# Altium footprint library LDO.PcbLib: 4 footprints
Each footprint in its own frame and in the unit in brackets; x right, y up, seen from the top. Pads: shape width x height; smd on the part's side, far side on the other; paste and mask are expansions set on the pad; w line width, h text height; cw(c..) or ccw(c..) is an arc to the next point about the centre after c.
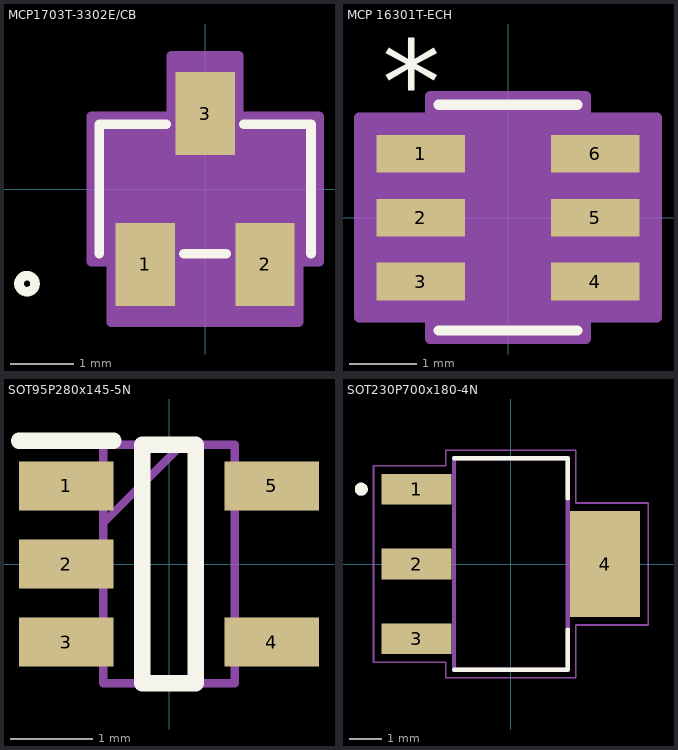
[diagram p0: the footprints below, top view; thin cyan lines are the x and y axes]

## MCP1703T-3302E/CB [mil]
pads (3):
  rect 37x52 smd paste+0 mask+0: 1(-37.4,-47.06) 2(37.4,-47.06) 3(0,47.06)
Top Overlay:
  circle w6: c-111.02,-59.06 r5
  lines w6: -66.02,-40.43 -66.02,40.43 -24.1,40.43 ; -13.3,-40.43 13.3,-40.43 ; 24.1,40.43 66.02,40.43 66.02,-40.43
Mechanical 13:
  circle w1: c-51.02,-25.43 r5
  lines w1: -61.02,-35.43 61.02,-35.43 61.02,35.43 -61.02,35.43 -61.02,-35.43 ; -47.4,-59.06 -47.4,-35.43 -27.4,-35.43 -27.4,-59.06 -47.4,-59.06 ; -10,35.43 10,35.43 10,59.06 -10,59.06 -10,35.43 ; 27.4,-59.06 27.4,-35.43 47.4,-35.43 47.4,-59.06 27.4,-59.06
Mechanical 15:
  region: -71.02,-45.43 -71.02,45.43 -21,45.43 -21,83.06 21,83.06 21,45.43 71.02,45.43 71.02,-45.43 58.4,-45.43 58.4,-83.06 -58.4,-83.06 -58.4,-45.43
  region: 61.02,-35.43 -61.02,-35.43 -61.02,35.43 61.02,35.43
  lines w6: -71.02,-45.43 -71.02,45.43 -21,45.43 -21,83.06 21,83.06 21,45.43 71.02,45.43 71.02,-45.43 58.4,-45.43 58.4,-83.06 -58.4,-83.06 -58.4,-45.43 -71.02,-45.43
3D body "SOT-23A_MC_MCH.step": height 57.09, standoff 0, extent -61.02,-59.06 61.02,59.06

## MCP 16301T-ECH [mil]
pads (6):
  rect 52x22 smd paste+0 mask+0: 1(-51,37.4) 2(-51,0) 3(-51,-37.4) 4(51,-37.4) 5(51,0) 6(51,37.4)
Top Overlay:
  lines w6: -40.5,-66 40.5,-66 ; -40.5,66 40.5,66
  text "*" at -73.5,54.4 h50
Mechanical 13:
  lines w1: -12,61 ccw(c0,61) 12,61 ; -63,-47.4 -35.5,-47.4 -35.5,-27.4 -63,-27.4 -63,-47.4 ; -63,-10 -35.5,-10 -35.5,10 -63,10 -63,-10 ; -63,27.4 -35.5,27.4 -35.5,47.4 -63,47.4 -63,27.4 ; -35.5,-61 -35.5,61 35.5,61 35.5,-61 -35.5,-61 ; 35.5,-47.4 63,-47.4 63,-27.4 35.5,-27.4 35.5,-47.4 ; 35.5,-10 63,-10 63,10 35.5,10 35.5,-10 ; 35.5,27.4 63,27.4 63,47.4 35.5,47.4 35.5,27.4
  text "*" at -33,8 h50
Mechanical 15:
  region: -45.5,-58.4 -87,-58.4 -87,58.4 -45.5,58.4 -45.5,71 45.5,71 45.5,58.4 87,58.4 87,-58.4 45.5,-58.4 45.5,-71 -45.5,-71
  lines w6: -87,-58.4 -45.5,-58.4 -45.5,-71 45.5,-71 45.5,-58.4 87,-58.4 87,58.4 45.5,58.4 45.5,71 -45.5,71 -45.5,58.4 -87,58.4 -87,-58.4
3D body "SOT-23-6_MC_MCH.step": height 57.2, standoff 0, extent -62.99,-60.98 62.99,60.98

## SOT95P280x145-5N [mm]
pads (5):
  rect 1.15x0.6 smd: 1(-1.25,0.95) 2(-1.25,0) 3(-1.25,-0.95) 4(1.25,-0.95) 5(1.25,0.95)
Top Overlay:
  lines w0.2: -1.825,1.5 -0.675,1.5 ; -0.325,-1.45 0.325,-1.45 0.325,1.45 -0.325,1.45 -0.325,-1.45
Mechanical 15:
  lines w0.1: -0.8,0.5 0.15,1.45 ; -0.8,-1.45 0.8,-1.45 0.8,1.45 -0.8,1.45 -0.8,-1.45
3D body "SPX3819M5-L-3-3_TR.stp": height 1.45, standoff 0, extent -1.4,-1.45 1.4,1.45

## SOT230P700x180-4N [mm]
pads (4):
  rect 2.15x0.95 smd: 1(-2.9,2.3) 2(-2.9,0) 3(-2.9,-2.3)
  rect 2.15x3.25 smd: 4(2.9,0)
Top Overlay:
  circle w0.2: c-4.6,2.3 r0.1
  lines w0.127: -1.75,-3.25 1.75,-3.25 1.75,-2.01 ; -1.75,3.25 1.75,3.25 1.75,2.01
Mechanical 13:
  circle w0.2: c-4.6,2.3 r0.1
  lines w0.127: -1.75,-3.25 -1.75,3.25 1.75,3.25 1.75,-3.25 -1.75,-3.25
Mechanical 15:
  lines w0.05: -4.225,-3.025 -4.225,3.025 -2,3.025 -2,3.5 2,3.5 2,1.875 4.225,1.875 4.225,-1.875 2,-1.875 2,-3.5 -2,-3.5 -2,-3.025 -4.225,-3.025
3D body "SOT-223_DIO.step": height 1.65, standoff 0, extent -3.55,-3.275 3.55,3.275